# EAGLE library part KX126-1063 (library IoTMakers)
TRI-AXIS, USER SELECTABLE 2G, 4G, 8G, DIGITAL (I2C/SPI) OUTPUT, INTEGRATED PEDOMETER, FIFO/FILO BUFFER, 2X2X0.9MM LGA - KX126-1063 Source: Datasheet <http://kionixfs.kionix.com/en/datasheet/KX126-1063-Specifications-Rev-1.0.pdf>
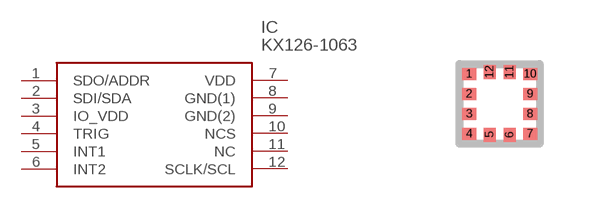
[diagram p7: symbol with the pads of 2X2X0.9MMLGA; footprint 2X2X0.9MMLGA]

Designator prefix IC

## KX126-1063 (DESCRIPTION: TRI-AXIS, USER SELECTABLE 2G, 4G, 8G, DIGITAL (I2C/SPI) OUTPUT, INTEGRATED PEDOMETER, FIFO/FILO BUFFER, 2X2X0.9MM LGA - KX126-1063; DIGIKEY_PART_NUMBER: 1191-1058-2-ND; HEIGHT: mm; MANUFACTURER_NAME: Kionix; MANUFACTURER_PART_NUMBER: KX126-1063)  [2X2X0.9MMLGA]
1  SDO/ADDR
2  SDI/SDA
3  IO_VDD
4  TRIG
5  INT1
6  INT2
7  VDD
8  GND(1)
9  GND(2)
10  NCS
11  NC  nc
12  SCLK/SCL

## Footprint 2X2X0.9MMLGA (pad centres in mm)
2 x 2 x 0.9 mm LGA
smd 0.35 x 0.3: 1 -0.762,0.75; 2 -0.762,0.25; 3 -0.762,-0.25; 4 -0.762,-0.75; 7 0.762,-0.75; 8 0.762,-0.25; 9 0.762,0.25; 10 0.762,0.75
smd 0.3 x 0.35: 5 -0.25,-0.775; 6 0.25,-0.775; 11 0.25,0.8; 12 -0.25,0.8